# Altium integrated library ST Logic Latch.IntLib: 78 symbols (part 1 of 2)
Pins are listed as number, name and electrical type; pins without a type are passive.

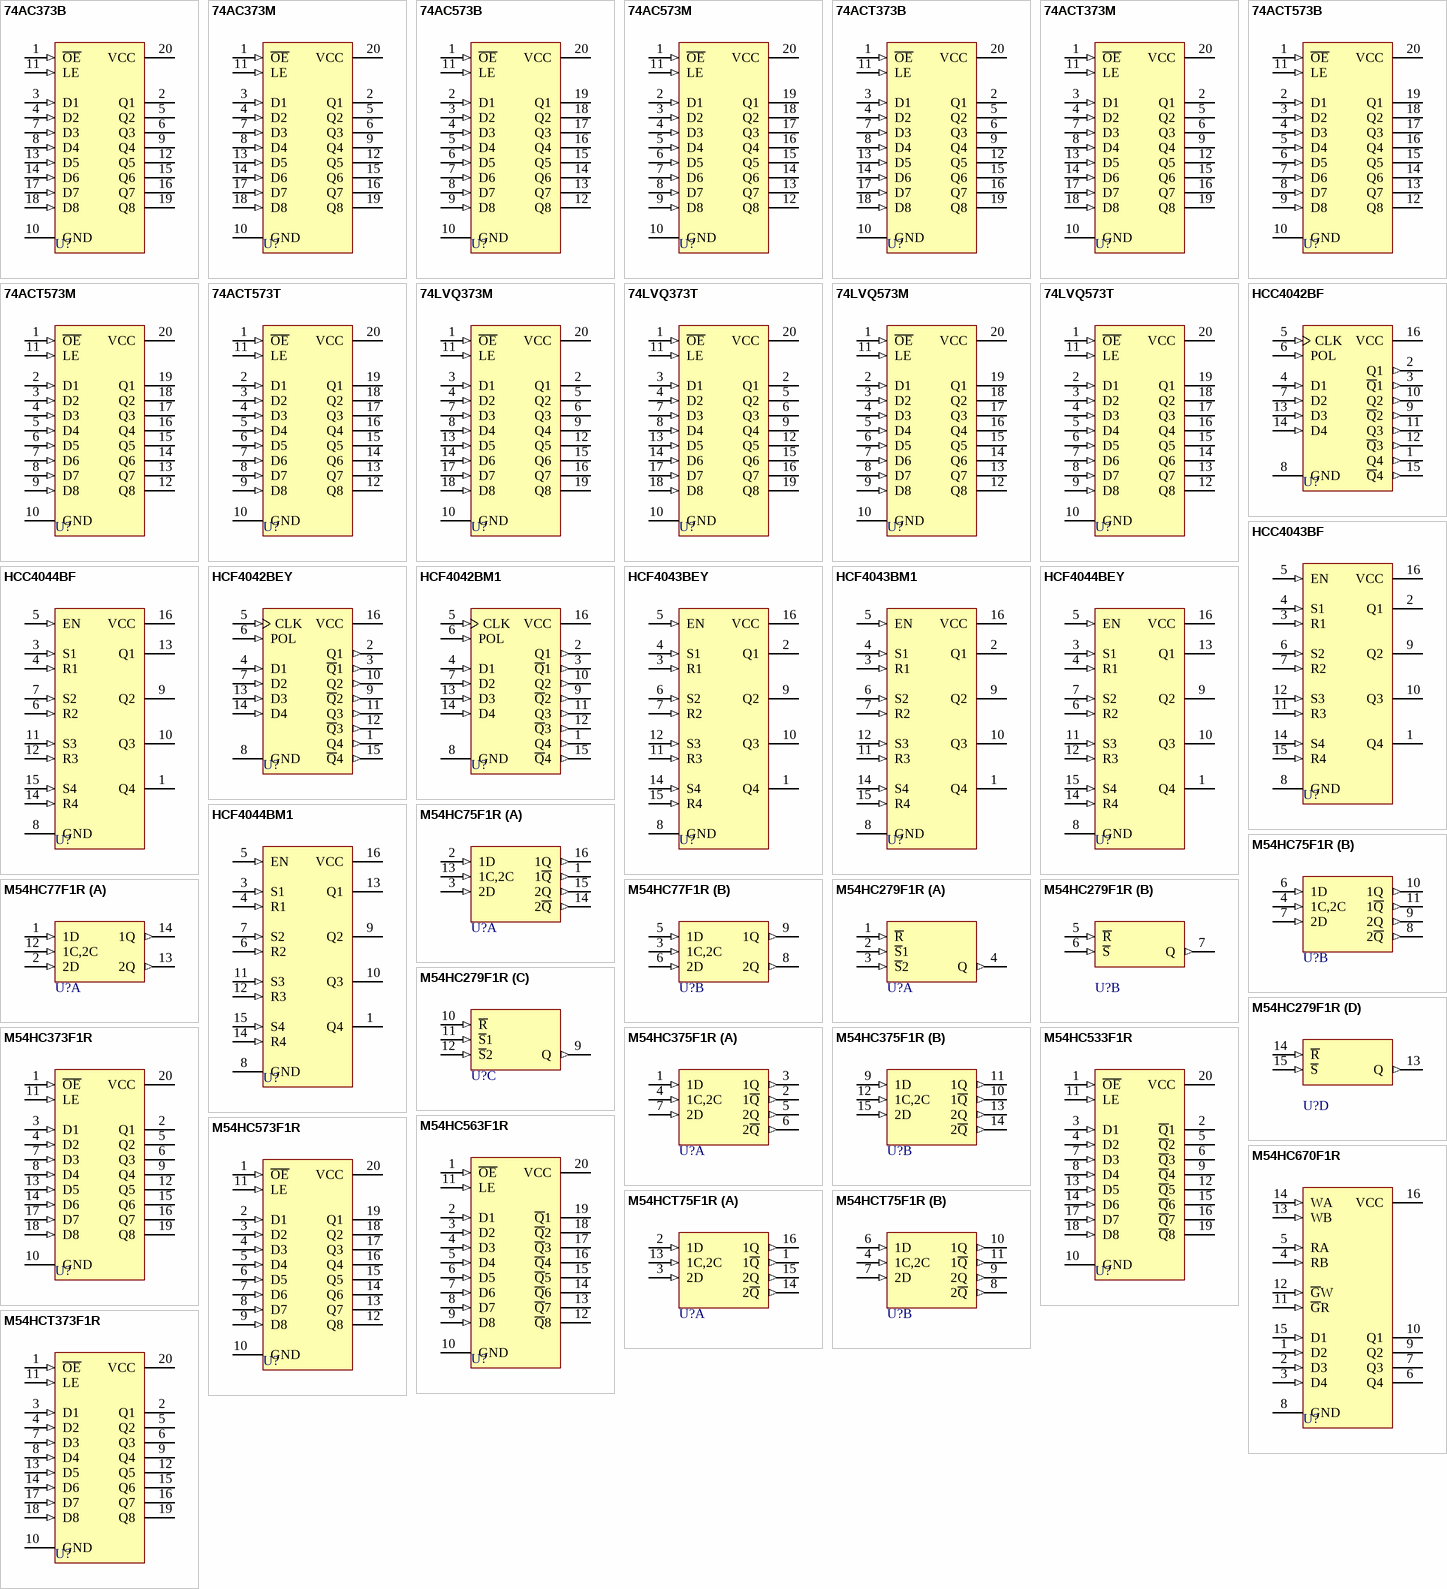
[diagram p0: symbols 74AC373B to M54HCT373F1R]

## 74AC373B
designator U?
Octal D-Type Latch with 3-State Output Non-Inverting; Published: 8-Jun-2000; LatestRevisionDate: 6-Jun-2005; LatestRevisionNote: Stylized 3D Model Added.; DatasheetDocument: Apr-1997; PackageDocument: Jun-1998; PackageReference: DIP20; Publisher: Altium Limited; Code_JEDEC: MS-015-AE; ComponentLink1Description: Manufacturer Link; ComponentLink1URL: http://www.st.com/; ComponentLink2Description: Datasheet; ComponentLink2URL: http://www.st.com/stonline/products/literature/ds/4937/74ac373.pdf
footprint DIP20 (DIP; 20 Leads; Row Spacing 7.62 mm; Pitch 2.54 mm)
3D model DIP20 (DIP; 20 Leads; Row Spacing 7.62 mm; Pitch 2.54 mm)
signal-integrity model 74AC373B
pins: 1 ~{OE} (in), 2 Q1 (hiz), 3 D1 (in), 4 D2 (in), 5 Q2 (hiz), 6 Q3 (hiz), 7 D3 (in), 8 D4 (in), 9 Q4 (hiz), 10 GND (power), 11 LE (in), 12 Q5 (hiz), 13 D5 (in), 14 D6 (in), 15 Q6 (hiz), 16 Q7 (hiz), 17 D7 (in), 18 D8 (in), 19 Q8 (hiz), 20 VCC (power)

## 74AC373M
designator U?
Octal D-Type Latch with 3-State Output Non-Inverting; Published: 8-Jun-2000; LatestRevisionDate: 6-Jun-2005; LatestRevisionNote: Stylized 3D Model Added.; DatasheetDocument: Apr-1997; PackageDocument: Jul-2001; PackageReference: SO20; Publisher: Altium Limited; Code_JEDEC: MS-013-AC; Code_IPC: SO20W; ComponentLink1Description: Manufacturer Link; ComponentLink1URL: http://www.st.com/; ComponentLink2Description: Datasheet; ComponentLink2URL: http://www.st.com/stonline/products/literature/ds/4937/74ac373.pdf
footprint SO20 (Small Outline, Plastic; 20 Leads; Body Width 7.5 mm; Pitch 1.27 mm)
3D model SO20 (Small Outline, Plastic; 20 Leads; Body Width 7.5 mm; Pitch 1.27 mm)
signal-integrity model 74AC373M
pins: 1 ~{OE} (in), 2 Q1 (hiz), 3 D1 (in), 4 D2 (in), 5 Q2 (hiz), 6 Q3 (hiz), 7 D3 (in), 8 D4 (in), 9 Q4 (hiz), 10 GND (power), 11 LE (in), 12 Q5 (hiz), 13 D5 (in), 14 D6 (in), 15 Q6 (hiz), 16 Q7 (hiz), 17 D7 (in), 18 D8 (in), 19 Q8 (hiz), 20 VCC (power)

## 74AC573B
designator U?
Octal D-Type Latch with 3-State Output Non-Inverting; Published: 8-Jun-2000; LatestRevisionDate: 6-Jun-2005; LatestRevisionNote: Stylized 3D Model Added.; DatasheetDocument: Apr-1997; PackageDocument: Jun-1998; PackageReference: DIP20; Publisher: Altium Limited; Code_JEDEC: MS-015-AE; ComponentLink1Description: Manufacturer Link; ComponentLink1URL: http://www.st.com/; ComponentLink2Description: Datasheet; ComponentLink2URL: http://www.st.com/stonline/products/literature/ds/4702/74ac573.pdf
footprint DIP20 (DIP; 20 Leads; Row Spacing 7.62 mm; Pitch 2.54 mm)
3D model DIP20 (DIP; 20 Leads; Row Spacing 7.62 mm; Pitch 2.54 mm)
signal-integrity model 74AC573B
pins: 1 ~{OE} (in), 2 D1 (in), 3 D2 (in), 4 D3 (in), 5 D4 (in), 6 D5 (in), 7 D6 (in), 8 D7 (in), 9 D8 (in), 10 GND (power), 11 LE (in), 12 Q8 (hiz), 13 Q7 (hiz), 14 Q6 (hiz), 15 Q5 (hiz), 16 Q4 (hiz), 17 Q3 (hiz), 18 Q2 (hiz), 19 Q1 (hiz), 20 VCC (power)

## 74AC573M
designator U?
Octal D-Type Latch with 3-State Output Non-Inverting; Published: 8-Jun-2000; LatestRevisionDate: 6-Jun-2005; LatestRevisionNote: Stylized 3D Model Added.; DatasheetDocument: Apr-1997; PackageDocument: Jul-2001; PackageReference: SO20; Publisher: Altium Limited; Code_JEDEC: MS-013-AC; Code_IPC: SO20W; ComponentLink1Description: Manufacturer Link; ComponentLink1URL: http://www.st.com/; ComponentLink2Description: Datasheet; ComponentLink2URL: http://www.st.com/stonline/products/literature/ds/4702/74ac573.pdf
footprint SO20 (Small Outline, Plastic; 20 Leads; Body Width 7.5 mm; Pitch 1.27 mm)
3D model SO20 (Small Outline, Plastic; 20 Leads; Body Width 7.5 mm; Pitch 1.27 mm)
signal-integrity model 74AC573M
pins: 1 ~{OE} (in), 2 D1 (in), 3 D2 (in), 4 D3 (in), 5 D4 (in), 6 D5 (in), 7 D6 (in), 8 D7 (in), 9 D8 (in), 10 GND (power), 11 LE (in), 12 Q8 (hiz), 13 Q7 (hiz), 14 Q6 (hiz), 15 Q5 (hiz), 16 Q4 (hiz), 17 Q3 (hiz), 18 Q2 (hiz), 19 Q1 (hiz), 20 VCC (power)

## 74ACT373B
designator U?
Octal D-Type Latch with 3-State Output Non-Inverting; Published: 8-Jun-2000; LatestRevisionDate: 6-Jun-2005; LatestRevisionNote: Stylized 3D Model Added.; DatasheetDocument: Apr-1997; PackageDocument: Jun-1998; PackageReference: DIP20; Publisher: Altium Limited; Code_JEDEC: MS-015-AE; ComponentLink1Description: Manufacturer Link; ComponentLink1URL: http://www.st.com/; ComponentLink2Description: Datasheet; ComponentLink2URL: http://www.st.com/stonline/products/literature/ds/4819/74act373.pdf
footprint DIP20 (DIP; 20 Leads; Row Spacing 7.62 mm; Pitch 2.54 mm)
3D model DIP20 (DIP; 20 Leads; Row Spacing 7.62 mm; Pitch 2.54 mm)
signal-integrity model 74ACT373B
pins: 1 ~{OE} (in), 2 Q1 (hiz), 3 D1 (in), 4 D2 (in), 5 Q2 (hiz), 6 Q3 (hiz), 7 D3 (in), 8 D4 (in), 9 Q4 (hiz), 10 GND (power), 11 LE (in), 12 Q5 (hiz), 13 D5 (in), 14 D6 (in), 15 Q6 (hiz), 16 Q7 (hiz), 17 D7 (in), 18 D8 (in), 19 Q8 (hiz), 20 VCC (power)

## 74ACT373M
designator U?
Octal D-Type Latch with 3-State Output Non-Inverting; Published: 8-Jun-2000; LatestRevisionDate: 6-Jun-2005; LatestRevisionNote: Stylized 3D Model Added.; DatasheetDocument: Apr-1997; PackageDocument: Jul-2001; PackageReference: SO20; Publisher: Altium Limited; Code_JEDEC: MS-013-AC; Code_IPC: SO20W; ComponentLink1Description: Manufacturer Link; ComponentLink1URL: http://www.st.com/; ComponentLink2Description: Datasheet; ComponentLink2URL: http://www.st.com/stonline/products/literature/ds/4819/74act373.pdf
footprint SO20 (Small Outline, Plastic; 20 Leads; Body Width 7.5 mm; Pitch 1.27 mm)
3D model SO20 (Small Outline, Plastic; 20 Leads; Body Width 7.5 mm; Pitch 1.27 mm)
signal-integrity model 74ACT373M
pins: 1 ~{OE} (in), 2 Q1 (hiz), 3 D1 (in), 4 D2 (in), 5 Q2 (hiz), 6 Q3 (hiz), 7 D3 (in), 8 D4 (in), 9 Q4 (hiz), 10 GND (power), 11 LE (in), 12 Q5 (hiz), 13 D5 (in), 14 D6 (in), 15 Q6 (hiz), 16 Q7 (hiz), 17 D7 (in), 18 D8 (in), 19 Q8 (hiz), 20 VCC (power)

## 74ACT573B
designator U?
Octal D-Type Latch with 3-State Output Non-Inverting; Published: 8-Jun-2000; LatestRevisionDate: 6-Jun-2005; LatestRevisionNote: Stylized 3D Model Added.; DatasheetDocument: May-1999; PackageDocument: Jun-1998; PackageReference: DIP20; Publisher: Altium Limited; Code_JEDEC: MS-015-AE; ComponentLink1Description: Manufacturer Link; ComponentLink1URL: http://www.st.com/; ComponentLink2Description: Datasheet; ComponentLink2URL: http://www.st.com/stonline/products/literature/ds/4820/74act573.pdf
footprint DIP20 (DIP; 20 Leads; Row Spacing 7.62 mm; Pitch 2.54 mm)
3D model DIP20 (DIP; 20 Leads; Row Spacing 7.62 mm; Pitch 2.54 mm)
signal-integrity model 74ACT573B
pins: 1 ~{OE} (in), 2 D1 (in), 3 D2 (in), 4 D3 (in), 5 D4 (in), 6 D5 (in), 7 D6 (in), 8 D7 (in), 9 D8 (in), 10 GND (power), 11 LE (in), 12 Q8 (hiz), 13 Q7 (hiz), 14 Q6 (hiz), 15 Q5 (hiz), 16 Q4 (hiz), 17 Q3 (hiz), 18 Q2 (hiz), 19 Q1 (hiz), 20 VCC (power)

## 74ACT573M
designator U?
Octal D-Type Latch with 3-State Output Non-Inverting; Published: 8-Jun-2000; LatestRevisionDate: 6-Jun-2005; LatestRevisionNote: Stylized 3D Model Added.; DatasheetDocument: May-1999; PackageDocument: Jul-2001; PackageReference: SO20; Publisher: Altium Limited; Code_JEDEC: MS-013-AC; Code_IPC: SO20W; ComponentLink1Description: Manufacturer Link; ComponentLink1URL: http://www.st.com/; ComponentLink2Description: Datasheet; ComponentLink2URL: http://www.st.com/stonline/products/literature/ds/4820/74act573.pdf
footprint SO20 (Small Outline, Plastic; 20 Leads; Body Width 7.5 mm; Pitch 1.27 mm)
3D model SO20 (Small Outline, Plastic; 20 Leads; Body Width 7.5 mm; Pitch 1.27 mm)
signal-integrity model 74ACT573M
pins: 1 ~{OE} (in), 2 D1 (in), 3 D2 (in), 4 D3 (in), 5 D4 (in), 6 D5 (in), 7 D6 (in), 8 D7 (in), 9 D8 (in), 10 GND (power), 11 LE (in), 12 Q8 (hiz), 13 Q7 (hiz), 14 Q6 (hiz), 15 Q5 (hiz), 16 Q4 (hiz), 17 Q3 (hiz), 18 Q2 (hiz), 19 Q1 (hiz), 20 VCC (power)

## 74ACT573T
designator U?
Octal D-Type Latch with 3-State Output Non-Inverting; Published: 8-Jun-2000; LatestRevisionDate: 6-Jun-2005; LatestRevisionNote: Stylized 3D Model Added.; DatasheetDocument: May-1999; PackageReference: TSSOP20; Publisher: Altium Limited; ComponentLink1Description: Manufacturer Link; ComponentLink1URL: http://www.st.com/; ComponentLink2Description: Datasheet; ComponentLink2URL: http://www.st.com/stonline/products/literature/ds/4820/74act573.pdf
footprint TSSOP20 (Shrink Small Outline; 20 Leads; Body Width 4.4 mm; Pitch 0.65 mm)
3D model TSSOP20 (Shrink Small Outline; 20 Leads; Body Width 4.4 mm; Pitch 0.65 mm)
signal-integrity model 74ACT573T
pins: 1 ~{OE} (in), 2 D1 (in), 3 D2 (in), 4 D3 (in), 5 D4 (in), 6 D5 (in), 7 D6 (in), 8 D7 (in), 9 D8 (in), 10 GND (power), 11 LE (in), 12 Q8 (hiz), 13 Q7 (hiz), 14 Q6 (hiz), 15 Q5 (hiz), 16 Q4 (hiz), 17 Q3 (hiz), 18 Q2 (hiz), 19 Q1 (hiz), 20 VCC (power)

## 74LVQ373M
designator U?
Octal D-Type Latch with 3-State Output Non-Inverting; Published: 8-Jun-2000; LatestRevisionDate: 6-Jun-2005; LatestRevisionNote: Stylized 3D Model Added.; DatasheetDocument: Feb-1999; PackageDocument: Jul-2001; PackageReference: SO20; Publisher: Altium Limited; Code_JEDEC: MS-013-AC; Code_IPC: SO20W; ComponentLink1Description: Manufacturer Link; ComponentLink1URL: http://www.st.com/; ComponentLink2Description: Datasheet; ComponentLink2URL: http://www.st.com/stonline/products/literature/ds/4911/74lvq373.pdf
footprint SO20 (Small Outline, Plastic; 20 Leads; Body Width 7.5 mm; Pitch 1.27 mm)
3D model SO20 (Small Outline, Plastic; 20 Leads; Body Width 7.5 mm; Pitch 1.27 mm)
pins: 1 ~{OE} (in), 2 Q1 (hiz), 3 D1 (in), 4 D2 (in), 5 Q2 (hiz), 6 Q3 (hiz), 7 D3 (in), 8 D4 (in), 9 Q4 (hiz), 10 GND (power), 11 LE (in), 12 Q5 (hiz), 13 D5 (in), 14 D6 (in), 15 Q6 (hiz), 16 Q7 (hiz), 17 D7 (in), 18 D8 (in), 19 Q8 (hiz), 20 VCC (power)

## 74LVQ373T
designator U?
Octal D-Type Latch with 3-State Output Non-Inverting; Published: 8-Jun-2000; LatestRevisionDate: 6-Jun-2005; LatestRevisionNote: Stylized 3D Model Added.; DatasheetDocument: Feb-1999; PackageReference: TSSOP20; Publisher: Altium Limited; ComponentLink1Description: Manufacturer Link; ComponentLink1URL: http://www.st.com/; ComponentLink2Description: Datasheet; ComponentLink2URL: http://www.st.com/stonline/products/literature/ds/4911/74lvq373.pdf
footprint TSSOP20 (Shrink Small Outline; 20 Leads; Body Width 4.4 mm; Pitch 0.65 mm)
3D model TSSOP20 (Shrink Small Outline; 20 Leads; Body Width 4.4 mm; Pitch 0.65 mm)
pins: 1 ~{OE} (in), 2 Q1 (hiz), 3 D1 (in), 4 D2 (in), 5 Q2 (hiz), 6 Q3 (hiz), 7 D3 (in), 8 D4 (in), 9 Q4 (hiz), 10 GND (power), 11 LE (in), 12 Q5 (hiz), 13 D5 (in), 14 D6 (in), 15 Q6 (hiz), 16 Q7 (hiz), 17 D7 (in), 18 D8 (in), 19 Q8 (hiz), 20 VCC (power)

## 74LVQ573M
designator U?
Octal D-Type Latch with 3-State Output Non-Inverting; Published: 8-Jun-2000; LatestRevisionDate: 6-Jun-2005; LatestRevisionNote: Stylized 3D Model Added.; DatasheetDocument: Feb-1999; PackageDocument: Jul-2001; PackageReference: SO20; Publisher: Altium Limited; Code_JEDEC: MS-013-AC; Code_IPC: SO20W; ComponentLink1Description: Manufacturer Link; ComponentLink1URL: http://www.st.com/; ComponentLink2Description: Datasheet; ComponentLink2URL: http://www.st.com/stonline/products/literature/ds/4909/74lvq573.pdf
footprint SO20 (Small Outline, Plastic; 20 Leads; Body Width 7.5 mm; Pitch 1.27 mm)
3D model SO20 (Small Outline, Plastic; 20 Leads; Body Width 7.5 mm; Pitch 1.27 mm)
pins: 1 ~{OE} (in), 2 D1 (in), 3 D2 (in), 4 D3 (in), 5 D4 (in), 6 D5 (in), 7 D6 (in), 8 D7 (in), 9 D8 (in), 10 GND (power), 11 LE (in), 12 Q8 (hiz), 13 Q7 (hiz), 14 Q6 (hiz), 15 Q5 (hiz), 16 Q4 (hiz), 17 Q3 (hiz), 18 Q2 (hiz), 19 Q1 (hiz), 20 VCC (power)

## 74LVQ573T
designator U?
Octal D-Type Latch with 3-State Output Non-Inverting; Published: 8-Jun-2000; LatestRevisionDate: 6-Jun-2005; LatestRevisionNote: Stylized 3D Model Added.; DatasheetDocument: Feb-1999; PackageReference: TSSOP20; Publisher: Altium Limited; ComponentLink1Description: Manufacturer Link; ComponentLink1URL: http://www.st.com/; ComponentLink2Description: Datasheet; ComponentLink2URL: http://www.st.com/stonline/products/literature/ds/4909/74lvq573.pdf
footprint TSSOP20 (Shrink Small Outline; 20 Leads; Body Width 4.4 mm; Pitch 0.65 mm)
3D model TSSOP20 (Shrink Small Outline; 20 Leads; Body Width 4.4 mm; Pitch 0.65 mm)
pins: 1 ~{OE} (in), 2 D1 (in), 3 D2 (in), 4 D3 (in), 5 D4 (in), 6 D5 (in), 7 D6 (in), 8 D7 (in), 9 D8 (in), 10 GND (power), 11 LE (in), 12 Q8 (hiz), 13 Q7 (hiz), 14 Q6 (hiz), 15 Q5 (hiz), 16 Q4 (hiz), 17 Q3 (hiz), 18 Q2 (hiz), 19 Q1 (hiz), 20 VCC (power)

## HCC4042BF
designator U?
Quad Clocked D-Latch; Published: 8-Jun-2000; LatestRevisionDate: 6-Jun-2005; LatestRevisionNote: Stylized 3D Model Added.; DatasheetDocument: Jun-1989; PackageDocument: Apr-1996; PackageReference: DIP16; Publisher: Altium Limited; ComponentLink1Description: Manufacturer Link; ComponentLink1URL: http://www.st.com/
footprint DIP16 (DIP; 16 Leads; Row Spacing 7.62 mm; Pitch 2.54 mm)
3D model DIP16 (DIP; 16 Leads; Row Spacing 7.62 mm; Pitch 2.54 mm)
simulation model HCC4042 (SIMCODE)
pins: 1 Q4 (out), 2 Q1 (out), 3 ~{Q}1 (out), 4 D1 (in), 5 CLK (in), 6 POL (in), 7 D2 (in), 8 GND (power), 9 ~{Q}2 (out), 10 Q2 (out), 11 Q3 (out), 12 ~{Q}3 (out), 13 D3 (in), 14 D4 (in), 15 ~{Q}4 (out), 16 VCC (power)

## HCC4043BF
designator U?
Quad 3-State R-S Latch; Note: Pin 13 is not connected and not drawn.; Published: 8-Jun-2000; LatestRevisionDate: 6-Jun-2005; LatestRevisionNote: Stylized 3D Model Added.; DatasheetDocument: Jun-1989; PackageDocument: Apr-1996; PackageReference: DIP16; Publisher: Altium Limited; ComponentLink1Description: Manufacturer Link; ComponentLink1URL: http://www.st.com/
footprint DIP16 (DIP; 16 Leads; Row Spacing 7.62 mm; Pitch 2.54 mm)
3D model DIP16 (DIP; 16 Leads; Row Spacing 7.62 mm; Pitch 2.54 mm)
simulation model HCC4043 (SIMCODE)
pins: 1 Q4 (hiz), 2 Q1 (hiz), 3 R1 (in), 4 S1 (in), 5 EN (in), 6 S2 (in), 7 R2 (in), 8 GND (power), 9 Q2 (hiz), 10 Q3 (hiz), 11 R3 (in), 12 S3 (in), 14 S4 (in), 15 R4 (in), 16 VCC (power)

## HCC4044BF
designator U?
Quad 3-State R-S Latch; Note: Pin 2 is not connected and not drawn.; Published: 8-Jun-2000; LatestRevisionDate: 6-Jun-2005; LatestRevisionNote: Stylized 3D Model Added.; DatasheetDocument: Jun-1989; PackageDocument: Apr-1996; PackageReference: DIP16; Publisher: Altium Limited; ComponentLink1Description: Manufacturer Link; ComponentLink1URL: http://www.st.com/
footprint DIP16 (DIP; 16 Leads; Row Spacing 7.62 mm; Pitch 2.54 mm)
3D model DIP16 (DIP; 16 Leads; Row Spacing 7.62 mm; Pitch 2.54 mm)
simulation model HCC4044 (SIMCODE)
pins: 1 Q4 (hiz), 3 S1 (in), 4 R1 (in), 5 EN (in), 6 R2 (in), 7 S2 (in), 8 GND (power), 9 Q2 (hiz), 10 Q3 (hiz), 11 S3 (in), 12 R3 (in), 13 Q1 (hiz), 14 R4 (in), 15 S4 (in), 16 VCC (power)

## HCF4042BEY
designator U?
Quad Clocked D-Latch; Published: 8-Jun-2000; LatestRevisionDate: 6-Jun-2005; LatestRevisionNote: Stylized 3D Model Added.; DatasheetDocument: Jun-1989; PackageDocument: Apr-1996; PackageReference: DIP16; Publisher: Altium Limited; ComponentLink1Description: Manufacturer Link; ComponentLink1URL: http://www.st.com/; ComponentLink2Description: Datasheet; ComponentLink2URL: http://www.st.com/stonline/products/literature/ds/2047/hcf4042.pdf
footprint DIP16 (DIP; 16 Leads; Row Spacing 7.62 mm; Pitch 2.54 mm)
3D model DIP16 (DIP; 16 Leads; Row Spacing 7.62 mm; Pitch 2.54 mm)
simulation model HCF4042 (SIMCODE)
pins: 1 Q4 (out), 2 Q1 (out), 3 ~{Q}1 (out), 4 D1 (in), 5 CLK (in), 6 POL (in), 7 D2 (in), 8 GND (power), 9 ~{Q}2 (out), 10 Q2 (out), 11 Q3 (out), 12 ~{Q}3 (out), 13 D3 (in), 14 D4 (in), 15 ~{Q}4 (out), 16 VCC (power)

## HCF4042BM1
designator U?
Quad Clocked D-Latch; Published: 8-Jun-2000; LatestRevisionDate: 6-Jun-2005; LatestRevisionNote: Stylized 3D Model Added.; DatasheetDocument: Jun-1989; PackageDocument: May-1998; PackageReference: SO16; Publisher: Altium Limited; ComponentLink1Description: Manufacturer Link; ComponentLink1URL: http://www.st.com/; ComponentLink2Description: Datasheet; ComponentLink2URL: http://www.st.com/stonline/products/literature/ds/2047/hcf4042.pdf
footprint SO16 (Small Outline; 16 Leads; Body Width 3.9 mm; Pitch 1.27 mm)
3D model SO16 (Small Outline; 16 Leads; Body Width 3.9 mm; Pitch 1.27 mm)
simulation model HCF4042 (SIMCODE)
pins: 1 Q4 (out), 2 Q1 (out), 3 ~{Q}1 (out), 4 D1 (in), 5 CLK (in), 6 POL (in), 7 D2 (in), 8 GND (power), 9 ~{Q}2 (out), 10 Q2 (out), 11 Q3 (out), 12 ~{Q}3 (out), 13 D3 (in), 14 D4 (in), 15 ~{Q}4 (out), 16 VCC (power)

## HCF4043BEY
designator U?
Quad 3-State R-S Latch; Note: Pin 13 is not connected and not drawn.; Published: 8-Jun-2000; LatestRevisionDate: 6-Jun-2005; LatestRevisionNote: Stylized 3D Model Added.; DatasheetDocument: Jun-1989; PackageDocument: Apr-1996; PackageReference: DIP16; Publisher: Altium Limited; ComponentLink1Description: Manufacturer Link; ComponentLink1URL: http://www.st.com/
footprint DIP16 (DIP; 16 Leads; Row Spacing 7.62 mm; Pitch 2.54 mm)
3D model DIP16 (DIP; 16 Leads; Row Spacing 7.62 mm; Pitch 2.54 mm)
simulation model HCF4043 (SIMCODE)
pins: 1 Q4 (hiz), 2 Q1 (hiz), 3 R1 (in), 4 S1 (in), 5 EN (in), 6 S2 (in), 7 R2 (in), 8 GND (power), 9 Q2 (hiz), 10 Q3 (hiz), 11 R3 (in), 12 S3 (in), 14 S4 (in), 15 R4 (in), 16 VCC (power)

## HCF4043BM1
designator U?
Quad 3-State R-S Latch; Note: Pin 13 is not connected and not drawn.; Published: 8-Jun-2000; LatestRevisionDate: 6-Jun-2005; LatestRevisionNote: Stylized 3D Model Added.; DatasheetDocument: Jun-1989; PackageDocument: May-1998; PackageReference: SO16; Publisher: Altium Limited; ComponentLink1Description: Manufacturer Link; ComponentLink1URL: http://www.st.com/
footprint SO16 (Small Outline; 16 Leads; Body Width 3.9 mm; Pitch 1.27 mm)
3D model SO16 (Small Outline; 16 Leads; Body Width 3.9 mm; Pitch 1.27 mm)
simulation model HCF4043 (SIMCODE)
pins: 1 Q4 (hiz), 2 Q1 (hiz), 3 R1 (in), 4 S1 (in), 5 EN (in), 6 S2 (in), 7 R2 (in), 8 GND (power), 9 Q2 (hiz), 10 Q3 (hiz), 11 R3 (in), 12 S3 (in), 14 S4 (in), 15 R4 (in), 16 VCC (power)

## HCF4044BEY
designator U?
Quad 3-State R-S Latch; Note: Pin 2 is not connected and not drawn.; Published: 8-Jun-2000; LatestRevisionDate: 6-Jun-2005; LatestRevisionNote: Stylized 3D Model Added.; DatasheetDocument: Jun-1989; PackageDocument: Apr-1996; PackageReference: DIP16; Publisher: Altium Limited; ComponentLink1Description: Manufacturer Link; ComponentLink1URL: http://www.st.com/; ComponentLink2Description: Datasheet; ComponentLink2URL: http://www.st.com/stonline/products/literature/ds/8218/hcf4044.pdf
footprint DIP16 (DIP; 16 Leads; Row Spacing 7.62 mm; Pitch 2.54 mm)
3D model DIP16 (DIP; 16 Leads; Row Spacing 7.62 mm; Pitch 2.54 mm)
simulation model HCF4044 (SIMCODE)
pins: 1 Q4 (hiz), 3 S1 (in), 4 R1 (in), 5 EN (in), 6 R2 (in), 7 S2 (in), 8 GND (power), 9 Q2 (hiz), 10 Q3 (hiz), 11 S3 (in), 12 R3 (in), 13 Q1 (hiz), 14 R4 (in), 15 S4 (in), 16 VCC (power)

## HCF4044BM1
designator U?
Quad 3-State R-S Latch; Note: Pin 2 is not connected and not drawn.; Published: 8-Jun-2000; LatestRevisionDate: 6-Jun-2005; LatestRevisionNote: Stylized 3D Model Added.; DatasheetDocument: Jun-1989; PackageDocument: May-1998; PackageReference: SO16; Publisher: Altium Limited; ComponentLink1Description: Manufacturer Link; ComponentLink1URL: http://www.st.com/; ComponentLink2Description: Datasheet; ComponentLink2URL: http://www.st.com/stonline/products/literature/ds/8218/hcf4044.pdf
footprint SO16 (Small Outline; 16 Leads; Body Width 3.9 mm; Pitch 1.27 mm)
3D model SO16 (Small Outline; 16 Leads; Body Width 3.9 mm; Pitch 1.27 mm)
simulation model HCF4044 (SIMCODE)
pins: 1 Q4 (hiz), 3 S1 (in), 4 R1 (in), 5 EN (in), 6 R2 (in), 7 S2 (in), 8 GND (power), 9 Q2 (hiz), 10 Q3 (hiz), 11 S3 (in), 12 R3 (in), 13 Q1 (hiz), 14 R4 (in), 15 S4 (in), 16 VCC (power)

## M54HC75F1R
designator U?
4-Bit D-Type Latch; Published: 8-Jun-2000; LatestRevisionDate: 6-Jun-2005; LatestRevisionNote: Stylized 3D Model Added.; DatasheetDocument: Dec-1992; PackageDocument: Apr-1996; PackageReference: DIP16; Publisher: Altium Limited; ComponentLink1Description: Manufacturer Link; ComponentLink1URL: http://www.st.com/
footprint DIP16 (DIP; 16 Leads; Row Spacing 7.62 mm; Pitch 2.54 mm)
3D model DIP16 (DIP; 16 Leads; Row Spacing 7.62 mm; Pitch 2.54 mm)
signal-integrity model M54HC75F1R
pins on every part: 5 VCC (power) hidden to VCC, 12 GND (power) hidden to GND
part A pins: 1 1~{Q} (out), 2 1D (in), 3 2D (in), 13 1C,2C (in), 14 2~{Q} (out), 15 2Q (out), 16 1Q (out)
part B pins: 4 1C,2C (in), 6 1D (in), 7 2D (in), 8 2~{Q} (out), 9 2Q (out), 10 1Q (out), 11 1~{Q} (out)

## M54HC77F1R
designator U?
4-Bit D-Type Latch; Note: Pins 7 and 10 are not connected and not drawn.; Published: 8-Jun-2000; LatestRevisionDate: 6-Jun-2005; LatestRevisionNote: Stylized 3D Model Added.; DatasheetDocument: Oct-1992; PackageReference: CDIP14; Publisher: Altium Limited; ComponentLink1Description: Manufacturer Link; ComponentLink1URL: http://www.st.com/
footprint CDIP14 (DIP; 14 Leads; Row Spacing 7.62 mm; Pitch 2.54 mm)
3D model CDIP14 (DIP; 14 Leads; Row Spacing 7.62 mm; Pitch 2.54 mm)
signal-integrity model M54HC77F1R
pins on every part: 4 VCC (power) hidden to VCC, 11 GND (power) hidden to GND
part A pins: 1 1D (in), 2 2D (in), 12 1C,2C (in), 13 2Q (out), 14 1Q (out)
part B pins: 3 1C,2C (in), 5 1D (in), 6 2D (in), 8 2Q (out), 9 1Q (out)

## M54HC279F1R
designator U?
Quad S-R Latch; Published: 8-Jun-2000; LatestRevisionDate: 6-Jun-2005; LatestRevisionNote: Stylized 3D Model Added.; DatasheetDocument: Mar-1993; PackageDocument: Apr-1996; PackageReference: DIP16; Publisher: Altium Limited; ComponentLink1Description: Manufacturer Link; ComponentLink1URL: http://www.st.com/
footprint DIP16 (DIP; 16 Leads; Row Spacing 7.62 mm; Pitch 2.54 mm)
3D model DIP16 (DIP; 16 Leads; Row Spacing 7.62 mm; Pitch 2.54 mm)
signal-integrity model M54HC279F1R
pins on every part: 8 GND (power) hidden to GND, 16 VCC (power) hidden to VCC
part A pins: 1 ~{R} (in), 2 ~{S}1 (in), 3 ~{S}2 (in), 4 Q (out)
part B pins: 5 ~{R} (in), 6 ~{S} (in), 7 Q (out)
part C pins: 9 Q (out), 10 ~{R} (in), 11 ~{S}1 (in), 12 ~{S}2 (in)
part D pins: 13 Q (out), 14 ~{R} (in), 15 ~{S} (in)

## M54HC373F1R
designator U?
Octal D-Type Latch with 3-State Output Non-Inverting; Published: 8-Jun-2000; LatestRevisionDate: 6-Jun-2005; LatestRevisionNote: Stylized 3D Model Added.; DatasheetDocument: Oct-1993; PackageDocument: Sep-1994; PackageReference: CDIP20; Publisher: Altium Limited; ComponentLink1Description: Manufacturer Link; ComponentLink1URL: http://www.st.com/
footprint CDIP20 (DIP; 20 Leads; Row Spacing 7.62 mm; Pitch 2.54 mm)
3D model CDIP20 (DIP; 20 Leads; Row Spacing 7.62 mm; Pitch 2.54 mm)
signal-integrity model M54HC373F1R
pins: 1 ~{OE} (in), 2 Q1 (hiz), 3 D1 (in), 4 D2 (in), 5 Q2 (hiz), 6 Q3 (hiz), 7 D3 (in), 8 D4 (in), 9 Q4 (hiz), 10 GND (power), 11 LE (in), 12 Q5 (hiz), 13 D5 (in), 14 D6 (in), 15 Q6 (hiz), 16 Q7 (hiz), 17 D7 (in), 18 D8 (in), 19 Q8 (hiz), 20 VCC (power)

## M54HC375F1R
designator U?
Quad D-Type Latch; Published: 8-Jun-2000; LatestRevisionDate: 6-Jun-2005; LatestRevisionNote: Stylized 3D Model Added.; DatasheetDocument: Feb-1993; PackageDocument: Apr-1996; PackageReference: DIP16; Publisher: Altium Limited; ComponentLink1Description: Manufacturer Link; ComponentLink1URL: http://www.st.com/
footprint DIP16 (DIP; 16 Leads; Row Spacing 7.62 mm; Pitch 2.54 mm)
3D model DIP16 (DIP; 16 Leads; Row Spacing 7.62 mm; Pitch 2.54 mm)
signal-integrity model M54HC375F1R
pins on every part: 8 GND (power) hidden to GND, 16 VCC (power) hidden to VCC
part A pins: 1 1D (in), 2 1~{Q} (out), 3 1Q (out), 4 1C,2C (in), 5 2Q (out), 6 2~{Q} (out), 7 2D (in)
part B pins: 9 1D (in), 10 1~{Q} (out), 11 1Q (out), 12 1C,2C (in), 13 2Q (out), 14 2~{Q} (out), 15 2D (in)

## M54HC533F1R
designator U?
Octal D-Type Latch with 3-State Output Inverting; Published: 8-Jun-2000; LatestRevisionDate: 6-Jun-2005; LatestRevisionNote: Stylized 3D Model Added.; DatasheetDocument: Oct-1993; PackageDocument: Sep-1994; PackageReference: CDIP20; Publisher: Altium Limited; ComponentLink1Description: Manufacturer Link; ComponentLink1URL: http://www.st.com/
footprint CDIP20 (DIP; 20 Leads; Row Spacing 7.62 mm; Pitch 2.54 mm)
3D model CDIP20 (DIP; 20 Leads; Row Spacing 7.62 mm; Pitch 2.54 mm)
signal-integrity model M54HC533F1R
pins: 1 ~{OE} (in), 2 ~{Q}1 (hiz), 3 D1 (in), 4 D2 (in), 5 ~{Q}2 (hiz), 6 ~{Q}3 (hiz), 7 D3 (in), 8 D4 (in), 9 ~{Q}4 (hiz), 10 GND (power), 11 LE (in), 12 ~{Q}5 (hiz), 13 D5 (in), 14 D6 (in), 15 ~{Q}6 (hiz), 16 ~{Q}7 (hiz), 17 D7 (in), 18 D8 (in), 19 ~{Q}8 (hiz), 20 VCC (power)

## M54HC563F1R
designator U?
Octal D-Type Latch with 3-State Output Inverting; Published: 8-Jun-2000; LatestRevisionDate: 6-Jun-2005; LatestRevisionNote: Stylized 3D Model Added.; DatasheetDocument: Oct-1993; PackageDocument: Sep-1994; PackageReference: CDIP20; Publisher: Altium Limited; ComponentLink1Description: Manufacturer Link; ComponentLink1URL: http://www.st.com/
footprint CDIP20 (DIP; 20 Leads; Row Spacing 7.62 mm; Pitch 2.54 mm)
3D model CDIP20 (DIP; 20 Leads; Row Spacing 7.62 mm; Pitch 2.54 mm)
signal-integrity model M54HC563F1R
pins: 1 ~{OE} (in), 2 D1 (in), 3 D2 (in), 4 D3 (in), 5 D4 (in), 6 D5 (in), 7 D6 (in), 8 D7 (in), 9 D8 (in), 10 GND (power), 11 LE (in), 12 ~{Q}8 (hiz), 13 ~{Q}7 (hiz), 14 ~{Q}6 (hiz), 15 ~{Q}5 (hiz), 16 ~{Q}4 (hiz), 17 ~{Q}3 (hiz), 18 ~{Q}2 (hiz), 19 ~{Q}1 (hiz), 20 VCC (power)

## M54HC573F1R
designator U?
Octal D-Type Latch with 3-State Output Non-Inverting; Published: 8-Jun-2000; LatestRevisionDate: 6-Jun-2005; LatestRevisionNote: Stylized 3D Model Added.; DatasheetDocument: Oct-1993; PackageDocument: Sep-1994; PackageReference: CDIP20; Publisher: Altium Limited; ComponentLink1Description: Manufacturer Link; ComponentLink1URL: http://www.st.com/
footprint CDIP20 (DIP; 20 Leads; Row Spacing 7.62 mm; Pitch 2.54 mm)
3D model CDIP20 (DIP; 20 Leads; Row Spacing 7.62 mm; Pitch 2.54 mm)
signal-integrity model M54HC573F1R
pins: 1 ~{OE} (in), 2 D1 (in), 3 D2 (in), 4 D3 (in), 5 D4 (in), 6 D5 (in), 7 D6 (in), 8 D7 (in), 9 D8 (in), 10 GND (power), 11 LE (in), 12 Q8 (hiz), 13 Q7 (hiz), 14 Q6 (hiz), 15 Q5 (hiz), 16 Q4 (hiz), 17 Q3 (hiz), 18 Q2 (hiz), 19 Q1 (hiz), 20 VCC (power)

## M54HC670F1R
designator U?
4 Word x 4 Bit Register File (3-State); Published: 8-Jun-2000; LatestRevisionDate: 6-Jun-2005; LatestRevisionNote: Stylized 3D Model Added.; DatasheetDocument: Oct-1992; PackageDocument: Apr-1996; PackageReference: DIP16; Publisher: Altium Limited; ComponentLink1Description: Manufacturer Link; ComponentLink1URL: http://www.st.com/
footprint DIP16 (DIP; 16 Leads; Row Spacing 7.62 mm; Pitch 2.54 mm)
3D model DIP16 (DIP; 16 Leads; Row Spacing 7.62 mm; Pitch 2.54 mm)
signal-integrity model M54HC670F1R
pins: 1 D2 (in), 2 D3 (in), 3 D4 (in), 4 RB (in), 5 RA (in), 6 Q4 (hiz), 7 Q3 (hiz), 8 GND (power), 9 Q2 (hiz), 10 Q1 (hiz), 11 ~{G}R (in), 12 ~{G}W (in), 13 WB (in), 14 WA (in), 15 D1 (in), 16 VCC (power)

## M54HCT75F1R
designator U?
4-Bit D-Type Latch; Published: 8-Jun-2000; LatestRevisionDate: 6-Jun-2005; LatestRevisionNote: Stylized 3D Model Added.; DatasheetDocument: Jan-1993; PackageDocument: Apr-1996; PackageReference: DIP16; Publisher: Altium Limited; ComponentLink1Description: Manufacturer Link; ComponentLink1URL: http://www.st.com/
footprint DIP16 (DIP; 16 Leads; Row Spacing 7.62 mm; Pitch 2.54 mm)
3D model DIP16 (DIP; 16 Leads; Row Spacing 7.62 mm; Pitch 2.54 mm)
signal-integrity model M54HCT75F1R
pins on every part: 5 VCC (power) hidden to VCC, 12 GND (power) hidden to GND
part A pins: 1 1~{Q} (out), 2 1D (in), 3 2D (in), 13 1C,2C (in), 14 2~{Q} (out), 15 2Q (out), 16 1Q (out)
part B pins: 4 1C,2C (in), 6 1D (in), 7 2D (in), 8 2~{Q} (out), 9 2Q (out), 10 1Q (out), 11 1~{Q} (out)

## M54HCT373F1R
designator U?
Octal D-Type Latch with 3-State Output Non-Inverting; Published: 8-Jun-2000; LatestRevisionDate: 6-Jun-2005; LatestRevisionNote: Stylized 3D Model Added.; DatasheetDocument: Oct-1993; PackageDocument: Sep-1994; PackageReference: CDIP20; Publisher: Altium Limited; ComponentLink1Description: Manufacturer Link; ComponentLink1URL: http://www.st.com/
footprint CDIP20 (DIP; 20 Leads; Row Spacing 7.62 mm; Pitch 2.54 mm)
3D model CDIP20 (DIP; 20 Leads; Row Spacing 7.62 mm; Pitch 2.54 mm)
signal-integrity model M54HCT373F1R
pins: 1 ~{OE} (in), 2 Q1 (hiz), 3 D1 (in), 4 D2 (in), 5 Q2 (hiz), 6 Q3 (hiz), 7 D3 (in), 8 D4 (in), 9 Q4 (hiz), 10 GND (power), 11 LE (in), 12 Q5 (hiz), 13 D5 (in), 14 D6 (in), 15 Q6 (hiz), 16 Q7 (hiz), 17 D7 (in), 18 D8 (in), 19 Q8 (hiz), 20 VCC (power)

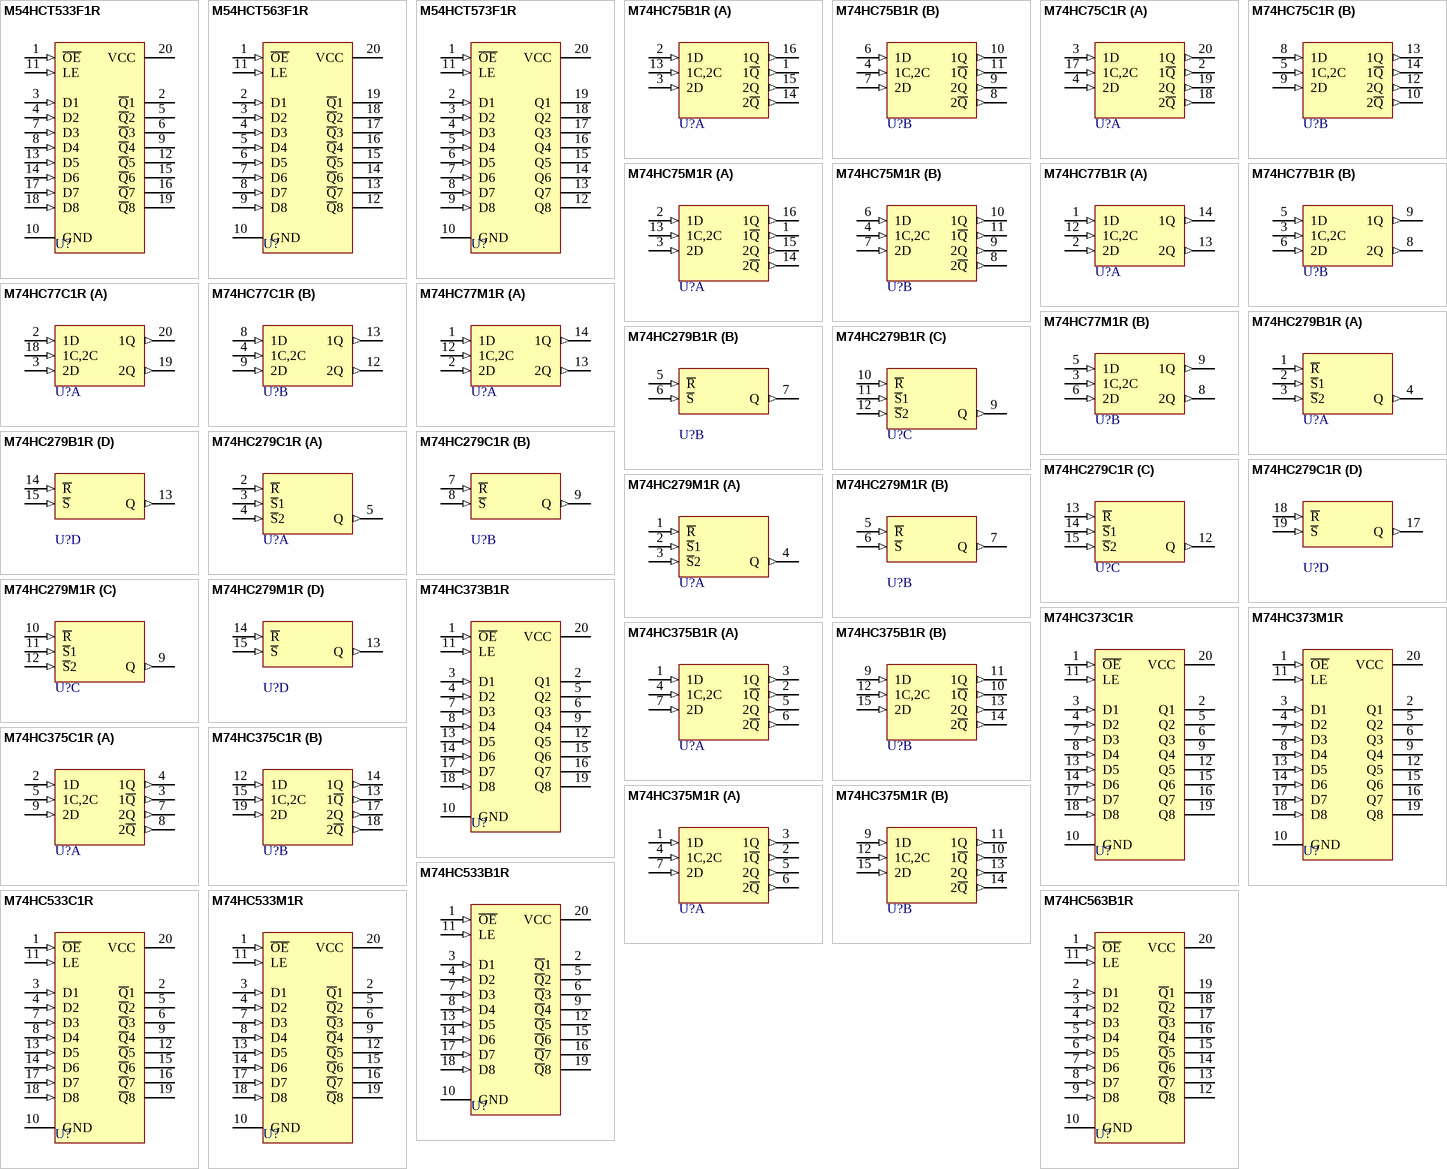
[diagram p1: symbols M54HCT533F1R to M74HC563B1R]

## M54HCT533F1R
designator U?
Octal D-Type Latch with 3-State Output Inverting; Published: 8-Jun-2000; LatestRevisionDate: 6-Jun-2005; LatestRevisionNote: Stylized 3D Model Added.; DatasheetDocument: Oct-1993; PackageDocument: Sep-1994; PackageReference: CDIP20; Publisher: Altium Limited; ComponentLink1Description: Manufacturer Link; ComponentLink1URL: http://www.st.com/
footprint CDIP20 (DIP; 20 Leads; Row Spacing 7.62 mm; Pitch 2.54 mm)
3D model CDIP20 (DIP; 20 Leads; Row Spacing 7.62 mm; Pitch 2.54 mm)
signal-integrity model M54HCT533F1R
pins: 1 ~{OE} (in), 2 ~{Q}1 (hiz), 3 D1 (in), 4 D2 (in), 5 ~{Q}2 (hiz), 6 ~{Q}3 (hiz), 7 D3 (in), 8 D4 (in), 9 ~{Q}4 (hiz), 10 GND (power), 11 LE (in), 12 ~{Q}5 (hiz), 13 D5 (in), 14 D6 (in), 15 ~{Q}6 (hiz), 16 ~{Q}7 (hiz), 17 D7 (in), 18 D8 (in), 19 ~{Q}8 (hiz), 20 VCC (power)

## M54HCT563F1R
designator U?
Octal D-Type Latch with 3-State Output Inverting; Published: 8-Jun-2000; LatestRevisionDate: 6-Jun-2005; LatestRevisionNote: Stylized 3D Model Added.; DatasheetDocument: Oct-1993; PackageDocument: Sep-1994; PackageReference: CDIP20; Publisher: Altium Limited; ComponentLink1Description: Manufacturer Link; ComponentLink1URL: http://www.st.com/
footprint CDIP20 (DIP; 20 Leads; Row Spacing 7.62 mm; Pitch 2.54 mm)
3D model CDIP20 (DIP; 20 Leads; Row Spacing 7.62 mm; Pitch 2.54 mm)
signal-integrity model M54HCT563F1R
pins: 1 ~{OE} (in), 2 D1 (in), 3 D2 (in), 4 D3 (in), 5 D4 (in), 6 D5 (in), 7 D6 (in), 8 D7 (in), 9 D8 (in), 10 GND (power), 11 LE (in), 12 ~{Q}8 (hiz), 13 ~{Q}7 (hiz), 14 ~{Q}6 (hiz), 15 ~{Q}5 (hiz), 16 ~{Q}4 (hiz), 17 ~{Q}3 (hiz), 18 ~{Q}2 (hiz), 19 ~{Q}1 (hiz), 20 VCC (power)

## M54HCT573F1R
designator U?
Octal D-Type Latch with 3-State Output Non-Inverting; Published: 8-Jun-2000; LatestRevisionDate: 6-Jun-2005; LatestRevisionNote: Stylized 3D Model Added.; DatasheetDocument: Oct-1993; PackageDocument: Sep-1994; PackageReference: CDIP20; Publisher: Altium Limited; ComponentLink1Description: Manufacturer Link; ComponentLink1URL: http://www.st.com/
footprint CDIP20 (DIP; 20 Leads; Row Spacing 7.62 mm; Pitch 2.54 mm)
3D model CDIP20 (DIP; 20 Leads; Row Spacing 7.62 mm; Pitch 2.54 mm)
signal-integrity model M54HCT573F1R
pins: 1 ~{OE} (in), 2 D1 (in), 3 D2 (in), 4 D3 (in), 5 D4 (in), 6 D5 (in), 7 D6 (in), 8 D7 (in), 9 D8 (in), 10 GND (power), 11 LE (in), 12 Q8 (hiz), 13 Q7 (hiz), 14 Q6 (hiz), 15 Q5 (hiz), 16 Q4 (hiz), 17 Q3 (hiz), 18 Q2 (hiz), 19 Q1 (hiz), 20 VCC (power)

## M74HC75B1R
designator U?
4-Bit D-Type Latch; Published: 8-Jun-2000; LatestRevisionDate: 6-Jun-2005; LatestRevisionNote: Stylized 3D Model Added.; DatasheetDocument: Dec-1992; PackageDocument: Apr-1996; PackageReference: DIP16; Publisher: Altium Limited; ComponentLink1Description: Manufacturer Link; ComponentLink1URL: http://www.st.com/; ComponentLink2Description: Datasheet; ComponentLink2URL: http://www.st.com/stonline/products/literature/ds/2001/m74hc75.pdf
footprint DIP16 (DIP; 16 Leads; Row Spacing 7.62 mm; Pitch 2.54 mm)
3D model DIP16 (DIP; 16 Leads; Row Spacing 7.62 mm; Pitch 2.54 mm)
signal-integrity model M74HC75B1R
pins on every part: 5 VCC (power) hidden to VCC, 12 GND (power) hidden to GND
part A pins: 1 1~{Q} (out), 2 1D (in), 3 2D (in), 13 1C,2C (in), 14 2~{Q} (out), 15 2Q (out), 16 1Q (out)
part B pins: 4 1C,2C (in), 6 1D (in), 7 2D (in), 8 2~{Q} (out), 9 2Q (out), 10 1Q (out), 11 1~{Q} (out)

## M74HC75C1R
designator U?
4-Bit D-Type Latch; Note: Pins 1, 6, 11 and 16 are not connected and not drawn.; Published: 8-Jun-2000; LatestRevisionDate: 6-Jun-2005; LatestRevisionNote: Stylized 3D Model Added.; DatasheetDocument: Dec-1992; PackageDocument: Mar-1992; PackageReference: PLCC20; Publisher: Altium Limited; ComponentLink1Description: Manufacturer Link; ComponentLink1URL: http://www.st.com/
footprint PLCC20 (Leaded Chip Carrier; 20 Leads; Body 9 x 9 mm)
3D model M74HC75-PLCC20 (Leaded Chip Carrier; 20 Leads; Body 9 x 9 mm)
signal-integrity model M74HC75C1R
pins on every part: 7 VCC (power) hidden to VCC, 15 GND (power) hidden to GND
part A pins: 2 1~{Q} (out), 3 1D (in), 4 2D (in), 17 1C,2C (in), 18 2~{Q} (out), 19 2Q (out), 20 1Q (out)
part B pins: 5 1C,2C (in), 8 1D (in), 9 2D (in), 10 2~{Q} (out), 12 2Q (out), 13 1Q (out), 14 1~{Q} (out)

## M74HC75M1R
designator U?
4-Bit D-Type Latch; Published: 8-Jun-2000; LatestRevisionDate: 6-Jun-2005; LatestRevisionNote: Stylized 3D Model Added.; DatasheetDocument: Dec-1992; PackageDocument: May-1998; PackageReference: SO16; Publisher: Altium Limited; ComponentLink1Description: Manufacturer Link; ComponentLink1URL: http://www.st.com/; ComponentLink2Description: Datasheet; ComponentLink2URL: http://www.st.com/stonline/products/literature/ds/2001/m74hc75.pdf
footprint SO16 (Small Outline; 16 Leads; Body Width 3.9 mm; Pitch 1.27 mm)
3D model SO16 (Small Outline; 16 Leads; Body Width 3.9 mm; Pitch 1.27 mm)
signal-integrity model M74HC75M1R
pins on every part: 5 VCC (power) hidden to VCC, 12 GND (power) hidden to GND
part A pins: 1 1~{Q} (out), 2 1D (in), 3 2D (in), 13 1C,2C (in), 14 2~{Q} (out), 15 2Q (out), 16 1Q (out)
part B pins: 4 1C,2C (in), 6 1D (in), 7 2D (in), 8 2~{Q} (out), 9 2Q (out), 10 1Q (out), 11 1~{Q} (out)

## M74HC77B1R
designator U?
4-Bit D-Type Latch; Note: Pins 7 and 10 are not connected and not drawn.; Published: 8-Jun-2000; LatestRevisionDate: 6-Jun-2005; LatestRevisionNote: Stylized 3D Model Added.; DatasheetDocument: Oct-1992; PackageDocument: Jan-1997; PackageReference: DIP14; Publisher: Altium Limited; ComponentLink1Description: Manufacturer Link; ComponentLink1URL: http://www.st.com/
footprint DIP14 (DIP; 14 Leads; Row Spacing 7.62 mm; Pitch 2.54 mm)
3D model CDIP14 (DIP; 14 Leads; Row Spacing 7.62 mm; Pitch 2.54 mm)
signal-integrity model M74HC77B1R
pins on every part: 4 VCC (power) hidden to VCC, 11 GND (power) hidden to GND
part A pins: 1 1D (in), 2 2D (in), 12 1C,2C (in), 13 2Q (out), 14 1Q (out)
part B pins: 3 1C,2C (in), 5 1D (in), 6 2D (in), 8 2Q (out), 9 1Q (out)

## M74HC77C1R
designator U?
4-Bit D-Type Latch; Note: Pins 1, 5, 7, 10, 11, 14, 15 and 17 are not connected and not drawn.; Published: 8-Jun-2000; LatestRevisionDate: 6-Jun-2005; LatestRevisionNote: Stylized 3D Model Added.; DatasheetDocument: Oct-1992; PackageDocument: Mar-1992; PackageReference: PLCC20; Publisher: Altium Limited; ComponentLink1Description: Manufacturer Link; ComponentLink1URL: http://www.st.com/
footprint PLCC20 (Leaded Chip Carrier; 20 Leads; Body 9 x 9 mm)
3D model M74HC77-PLCC20 (Leaded Chip Carrier; 20 Leads; Body 9 x 9 mm)
signal-integrity model M74HC77C1R
pins on every part: 6 VCC (power) hidden to VCC, 16 GND (power) hidden to GND
part A pins: 2 1D (in), 3 2D (in), 18 1C,2C (in), 19 2Q (out), 20 1Q (out)
part B pins: 4 1C,2C (in), 8 1D (in), 9 2D (in), 12 2Q (out), 13 1Q (out)

## M74HC77M1R
designator U?
4-Bit D-Type Latch; Note: Pins 7 and 10 are not connected and not drawn.; Published: 8-Jun-2000; LatestRevisionDate: 6-Jun-2005; LatestRevisionNote: Stylized 3D Model Added.; DatasheetDocument: Oct-1992; PackageDocument: Sep-1998; PackageReference: SO14; Publisher: Altium Limited; ComponentLink1Description: Manufacturer Link; ComponentLink1URL: http://www.st.com/
footprint SO14 (Small Outline; 14 Leads; Body Width 3.9 mm; Pitch 1.27 mm)
3D model SO14 (Small Outline; 14 Leads; Body Width 3.9 mm; Pitch 1.27 mm)
signal-integrity model M74HC77M1R
pins on every part: 4 VCC (power) hidden to VCC, 11 GND (power) hidden to GND
part A pins: 1 1D (in), 2 2D (in), 12 1C,2C (in), 13 2Q (out), 14 1Q (out)
part B pins: 3 1C,2C (in), 5 1D (in), 6 2D (in), 8 2Q (out), 9 1Q (out)

## M74HC279B1R
designator U?
Quad S-R Latch; Published: 8-Jun-2000; LatestRevisionDate: 6-Jun-2005; LatestRevisionNote: Stylized 3D Model Added.; DatasheetDocument: Mar-1993; PackageDocument: Apr-1996; PackageReference: DIP16; Publisher: Altium Limited; ComponentLink1Description: Manufacturer Link; ComponentLink1URL: http://www.st.com/; ComponentLink2Description: Datasheet; ComponentLink2URL: http://www.st.com/stonline/products/literature/ds/1937/m74hc279.pdf
footprint DIP16 (DIP; 16 Leads; Row Spacing 7.62 mm; Pitch 2.54 mm)
3D model DIP16 (DIP; 16 Leads; Row Spacing 7.62 mm; Pitch 2.54 mm)
signal-integrity model M74HC279B1R
pins on every part: 8 GND (power) hidden to GND, 16 VCC (power) hidden to VCC
part A pins: 1 ~{R} (in), 2 ~{S}1 (in), 3 ~{S}2 (in), 4 Q (out)
part B pins: 5 ~{R} (in), 6 ~{S} (in), 7 Q (out)
part C pins: 9 Q (out), 10 ~{R} (in), 11 ~{S}1 (in), 12 ~{S}2 (in)
part D pins: 13 Q (out), 14 ~{R} (in), 15 ~{S} (in)

## M74HC279C1R
designator U?
Quad S-R Latch; Note: Pins 1, 6, 11 and 16 are not connected and not drawn.; Published: 8-Jun-2000; LatestRevisionDate: 6-Jun-2005; LatestRevisionNote: Stylized 3D Model Added.; DatasheetDocument: Mar-1993; PackageDocument: Mar-1992; PackageReference: PLCC20; Publisher: Altium Limited; ComponentLink1Description: Manufacturer Link; ComponentLink1URL: http://www.st.com/
footprint PLCC20 (Leaded Chip Carrier; 20 Leads; Body 9 x 9 mm)
3D model M74HC279-PLCC20 (Leaded Chip Carrier; 20 Leads; Body 9 x 9 mm)
signal-integrity model M74HC279C1R
pins on every part: 10 GND (power) hidden to GND, 20 VCC (power) hidden to VCC
part A pins: 2 ~{R} (in), 3 ~{S}1 (in), 4 ~{S}2 (in), 5 Q (out)
part B pins: 7 ~{R} (in), 8 ~{S} (in), 9 Q (out)
part C pins: 12 Q (out), 13 ~{R} (in), 14 ~{S}1 (in), 15 ~{S}2 (in)
part D pins: 17 Q (out), 18 ~{R} (in), 19 ~{S} (in)

## M74HC279M1R
designator U?
Quad S-R Latch; Published: 8-Jun-2000; LatestRevisionDate: 6-Jun-2005; LatestRevisionNote: Stylized 3D Model Added.; DatasheetDocument: Mar-1993; PackageDocument: May-1998; PackageReference: SO16; Publisher: Altium Limited; ComponentLink1Description: Manufacturer Link; ComponentLink1URL: http://www.st.com/; ComponentLink2Description: Datasheet; ComponentLink2URL: http://www.st.com/stonline/products/literature/ds/1937/m74hc279.pdf
footprint SO16 (Small Outline; 16 Leads; Body Width 3.9 mm; Pitch 1.27 mm)
3D model SO16 (Small Outline; 16 Leads; Body Width 3.9 mm; Pitch 1.27 mm)
signal-integrity model M74HC279M1R
pins on every part: 8 GND (power) hidden to GND, 16 VCC (power) hidden to VCC
part A pins: 1 ~{R} (in), 2 ~{S}1 (in), 3 ~{S}2 (in), 4 Q (out)
part B pins: 5 ~{R} (in), 6 ~{S} (in), 7 Q (out)
part C pins: 9 Q (out), 10 ~{R} (in), 11 ~{S}1 (in), 12 ~{S}2 (in)
part D pins: 13 Q (out), 14 ~{R} (in), 15 ~{S} (in)

## M74HC373B1R
designator U?
Octal D-Type Latch with 3-State Output Non-Inverting; Published: 8-Jun-2000; LatestRevisionDate: 6-Jun-2005; LatestRevisionNote: Stylized 3D Model Added.; DatasheetDocument: Oct-1993; PackageDocument: Jun-1998; PackageReference: DIP20; Publisher: Altium Limited; Code_JEDEC: MS-015-AE; ComponentLink1Description: Manufacturer Link; ComponentLink1URL: http://www.st.com/; ComponentLink2Description: Datasheet; ComponentLink2URL: http://www.st.com/stonline/products/literature/ds/1950/m74hc373.pdf
footprint DIP20 (DIP; 20 Leads; Row Spacing 7.62 mm; Pitch 2.54 mm)
3D model DIP20 (DIP; 20 Leads; Row Spacing 7.62 mm; Pitch 2.54 mm)
signal-integrity model M74HC373B1R
pins: 1 ~{OE} (in), 2 Q1 (hiz), 3 D1 (in), 4 D2 (in), 5 Q2 (hiz), 6 Q3 (hiz), 7 D3 (in), 8 D4 (in), 9 Q4 (hiz), 10 GND (power), 11 LE (in), 12 Q5 (hiz), 13 D5 (in), 14 D6 (in), 15 Q6 (hiz), 16 Q7 (hiz), 17 D7 (in), 18 D8 (in), 19 Q8 (hiz), 20 VCC (power)

## M74HC373C1R
designator U?
Octal D-Type Latch with 3-State Output Non-Inverting; Published: 8-Jun-2000; LatestRevisionDate: 6-Jun-2005; LatestRevisionNote: Stylized 3D Model Added.; DatasheetDocument: Oct-1993; PackageDocument: Mar-1992; PackageReference: PLCC20; Publisher: Altium Limited; ComponentLink1Description: Manufacturer Link; ComponentLink1URL: http://www.st.com/
footprint PLCC20 (Leaded Chip Carrier; 20 Leads; Body 9 x 9 mm)
3D model M74HC373-PLCC20 (Leaded Chip Carrier; 20 Leads; Body 9 x 9 mm)
signal-integrity model M74HC373C1R
pins: 1 ~{OE} (in), 2 Q1 (hiz), 3 D1 (in), 4 D2 (in), 5 Q2 (hiz), 6 Q3 (hiz), 7 D3 (in), 8 D4 (in), 9 Q4 (hiz), 10 GND (power), 11 LE (in), 12 Q5 (hiz), 13 D5 (in), 14 D6 (in), 15 Q6 (hiz), 16 Q7 (hiz), 17 D7 (in), 18 D8 (in), 19 Q8 (hiz), 20 VCC (power)

## M74HC373M1R
designator U?
Octal D-Type Latch with 3-State Output Non-Inverting; Published: 8-Jun-2000; LatestRevisionDate: 6-Jun-2005; LatestRevisionNote: Stylized 3D Model Added.; DatasheetDocument: Oct-1993; PackageDocument: Jul-2001; PackageReference: SO20; Publisher: Altium Limited; Code_JEDEC: MS-013-AC; Code_IPC: SO20W; ComponentLink1Description: Manufacturer Link; ComponentLink1URL: http://www.st.com/; ComponentLink2Description: Datasheet; ComponentLink2URL: http://www.st.com/stonline/products/literature/ds/1950/m74hc373.pdf
footprint SO20 (Small Outline, Plastic; 20 Leads; Body Width 7.5 mm; Pitch 1.27 mm)
3D model SO20 (Small Outline, Plastic; 20 Leads; Body Width 7.5 mm; Pitch 1.27 mm)
signal-integrity model M74HC373M1R
pins: 1 ~{OE} (in), 2 Q1 (hiz), 3 D1 (in), 4 D2 (in), 5 Q2 (hiz), 6 Q3 (hiz), 7 D3 (in), 8 D4 (in), 9 Q4 (hiz), 10 GND (power), 11 LE (in), 12 Q5 (hiz), 13 D5 (in), 14 D6 (in), 15 Q6 (hiz), 16 Q7 (hiz), 17 D7 (in), 18 D8 (in), 19 Q8 (hiz), 20 VCC (power)

## M74HC375B1R
designator U?
Quad D-Type Latch; Published: 8-Jun-2000; LatestRevisionDate: 6-Jun-2005; LatestRevisionNote: Stylized 3D Model Added.; DatasheetDocument: Feb-1993; PackageDocument: Apr-1996; PackageReference: DIP16; Publisher: Altium Limited; ComponentLink1Description: Manufacturer Link; ComponentLink1URL: http://www.st.com/
footprint DIP16 (DIP; 16 Leads; Row Spacing 7.62 mm; Pitch 2.54 mm)
3D model DIP16 (DIP; 16 Leads; Row Spacing 7.62 mm; Pitch 2.54 mm)
signal-integrity model M74HC375B1R
pins on every part: 8 GND (power) hidden to GND, 16 VCC (power) hidden to VCC
part A pins: 1 1D (in), 2 1~{Q} (out), 3 1Q (out), 4 1C,2C (in), 5 2Q (out), 6 2~{Q} (out), 7 2D (in)
part B pins: 9 1D (in), 10 1~{Q} (out), 11 1Q (out), 12 1C,2C (in), 13 2Q (out), 14 2~{Q} (out), 15 2D (in)

## M74HC375C1R
designator U?
Quad D-Type Latch; Note: Pins 1, 6, 11 and 16 are not connected and not drawn.; Published: 8-Jun-2000; LatestRevisionDate: 6-Jun-2005; LatestRevisionNote: Stylized 3D Model Added.; DatasheetDocument: Feb-1993; PackageDocument: Mar-1992; PackageReference: PLCC20; Publisher: Altium Limited; ComponentLink1Description: Manufacturer Link; ComponentLink1URL: http://www.st.com/
footprint PLCC20 (Leaded Chip Carrier; 20 Leads; Body 9 x 9 mm)
3D model M74HC375-PLCC20 (Leaded Chip Carrier; 20 Leads; Body 9 x 9 mm)
signal-integrity model M74HC375C1R
pins on every part: 10 GND (power) hidden to GND, 20 VCC (power) hidden to VCC
part A pins: 2 1D (in), 3 1~{Q} (out), 4 1Q (out), 5 1C,2C (in), 7 2Q (out), 8 2~{Q} (out), 9 2D (in)
part B pins: 12 1D (in), 13 1~{Q} (out), 14 1Q (out), 15 1C,2C (in), 17 2Q (out), 18 2~{Q} (out), 19 2D (in)

## M74HC375M1R
designator U?
Quad D-Type Latch; Published: 8-Jun-2000; LatestRevisionDate: 6-Jun-2005; LatestRevisionNote: Stylized 3D Model Added.; DatasheetDocument: Feb-1993; PackageDocument: May-1998; PackageReference: SO16; Publisher: Altium Limited; ComponentLink1Description: Manufacturer Link; ComponentLink1URL: http://www.st.com/
footprint SO16 (Small Outline; 16 Leads; Body Width 3.9 mm; Pitch 1.27 mm)
3D model SO16 (Small Outline; 16 Leads; Body Width 3.9 mm; Pitch 1.27 mm)
signal-integrity model M74HC375M1R
pins on every part: 8 GND (power) hidden to GND, 16 VCC (power) hidden to VCC
part A pins: 1 1D (in), 2 1~{Q} (out), 3 1Q (out), 4 1C,2C (in), 5 2Q (out), 6 2~{Q} (out), 7 2D (in)
part B pins: 9 1D (in), 10 1~{Q} (out), 11 1Q (out), 12 1C,2C (in), 13 2Q (out), 14 2~{Q} (out), 15 2D (in)

## M74HC533B1R
designator U?
Octal D-Type Latch with 3-State Output Inverting; Published: 8-Jun-2000; LatestRevisionDate: 6-Jun-2005; LatestRevisionNote: Stylized 3D Model Added.; DatasheetDocument: Oct-1993; PackageDocument: Jun-1998; PackageReference: DIP20; Publisher: Altium Limited; Code_JEDEC: MS-015-AE; ComponentLink1Description: Manufacturer Link; ComponentLink1URL: http://www.st.com/; ComponentLink2Description: Datasheet; ComponentLink2URL: http://www.st.com/stonline/products/literature/ds/8086/m74hc533.pdf
footprint DIP20 (DIP; 20 Leads; Row Spacing 7.62 mm; Pitch 2.54 mm)
3D model DIP20 (DIP; 20 Leads; Row Spacing 7.62 mm; Pitch 2.54 mm)
signal-integrity model M74HC533B1R
pins: 1 ~{OE} (in), 2 ~{Q}1 (hiz), 3 D1 (in), 4 D2 (in), 5 ~{Q}2 (hiz), 6 ~{Q}3 (hiz), 7 D3 (in), 8 D4 (in), 9 ~{Q}4 (hiz), 10 GND (power), 11 LE (in), 12 ~{Q}5 (hiz), 13 D5 (in), 14 D6 (in), 15 ~{Q}6 (hiz), 16 ~{Q}7 (hiz), 17 D7 (in), 18 D8 (in), 19 ~{Q}8 (hiz), 20 VCC (power)

## M74HC533C1R
designator U?
Octal D-Type Latch with 3-State Output Inverting; Published: 8-Jun-2000; LatestRevisionDate: 6-Jun-2005; LatestRevisionNote: Stylized 3D Model Added.; DatasheetDocument: Oct-1993; PackageDocument: Mar-1992; PackageReference: PLCC20; Publisher: Altium Limited; ComponentLink1Description: Manufacturer Link; ComponentLink1URL: http://www.st.com/
footprint PLCC20 (Leaded Chip Carrier; 20 Leads; Body 9 x 9 mm)
3D model M74HC533-PLCC20 (Leaded Chip Carrier; 20 Leads; Body 9 x 9 mm)
signal-integrity model M74HC533C1R
pins: 1 ~{OE} (in), 2 ~{Q}1 (hiz), 3 D1 (in), 4 D2 (in), 5 ~{Q}2 (hiz), 6 ~{Q}3 (hiz), 7 D3 (in), 8 D4 (in), 9 ~{Q}4 (hiz), 10 GND (power), 11 LE (in), 12 ~{Q}5 (hiz), 13 D5 (in), 14 D6 (in), 15 ~{Q}6 (hiz), 16 ~{Q}7 (hiz), 17 D7 (in), 18 D8 (in), 19 ~{Q}8 (hiz), 20 VCC (power)

## M74HC533M1R
designator U?
Octal D-Type Latch with 3-State Output Inverting; Published: 8-Jun-2000; LatestRevisionDate: 6-Jun-2005; LatestRevisionNote: Stylized 3D Model Added.; DatasheetDocument: Oct-1993; PackageDocument: Jul-2001; PackageReference: SO20; Publisher: Altium Limited; Code_JEDEC: MS-013-AC; Code_IPC: SO20W; ComponentLink1Description: Manufacturer Link; ComponentLink1URL: http://www.st.com/; ComponentLink2Description: Datasheet; ComponentLink2URL: http://www.st.com/stonline/products/literature/ds/8086/m74hc533.pdf
footprint SO20 (Small Outline, Plastic; 20 Leads; Body Width 7.5 mm; Pitch 1.27 mm)
3D model SO20 (Small Outline, Plastic; 20 Leads; Body Width 7.5 mm; Pitch 1.27 mm)
signal-integrity model M74HC533M1R
pins: 1 ~{OE} (in), 2 ~{Q}1 (hiz), 3 D1 (in), 4 D2 (in), 5 ~{Q}2 (hiz), 6 ~{Q}3 (hiz), 7 D3 (in), 8 D4 (in), 9 ~{Q}4 (hiz), 10 GND (power), 11 LE (in), 12 ~{Q}5 (hiz), 13 D5 (in), 14 D6 (in), 15 ~{Q}6 (hiz), 16 ~{Q}7 (hiz), 17 D7 (in), 18 D8 (in), 19 ~{Q}8 (hiz), 20 VCC (power)

## M74HC563B1R
designator U?
Octal D-Type Latch with 3-State Output Inverting; Published: 8-Jun-2000; LatestRevisionDate: 6-Jun-2005; LatestRevisionNote: Stylized 3D Model Added.; DatasheetDocument: Oct-1993; PackageDocument: Jun-1998; PackageReference: DIP20; Publisher: Altium Limited; Code_JEDEC: MS-015-AE; ComponentLink1Description: Manufacturer Link; ComponentLink1URL: http://www.st.com/; ComponentLink2Description: Datasheet; ComponentLink2URL: http://www.st.com/stonline/products/literature/ds/1984/m74hc563.pdf
footprint DIP20 (DIP; 20 Leads; Row Spacing 7.62 mm; Pitch 2.54 mm)
3D model DIP20 (DIP; 20 Leads; Row Spacing 7.62 mm; Pitch 2.54 mm)
signal-integrity model M74HC563B1R
pins: 1 ~{OE} (in), 2 D1 (in), 3 D2 (in), 4 D3 (in), 5 D4 (in), 6 D5 (in), 7 D6 (in), 8 D7 (in), 9 D8 (in), 10 GND (power), 11 LE (in), 12 ~{Q}8 (hiz), 13 ~{Q}7 (hiz), 14 ~{Q}6 (hiz), 15 ~{Q}5 (hiz), 16 ~{Q}4 (hiz), 17 ~{Q}3 (hiz), 18 ~{Q}2 (hiz), 19 ~{Q}1 (hiz), 20 VCC (power)

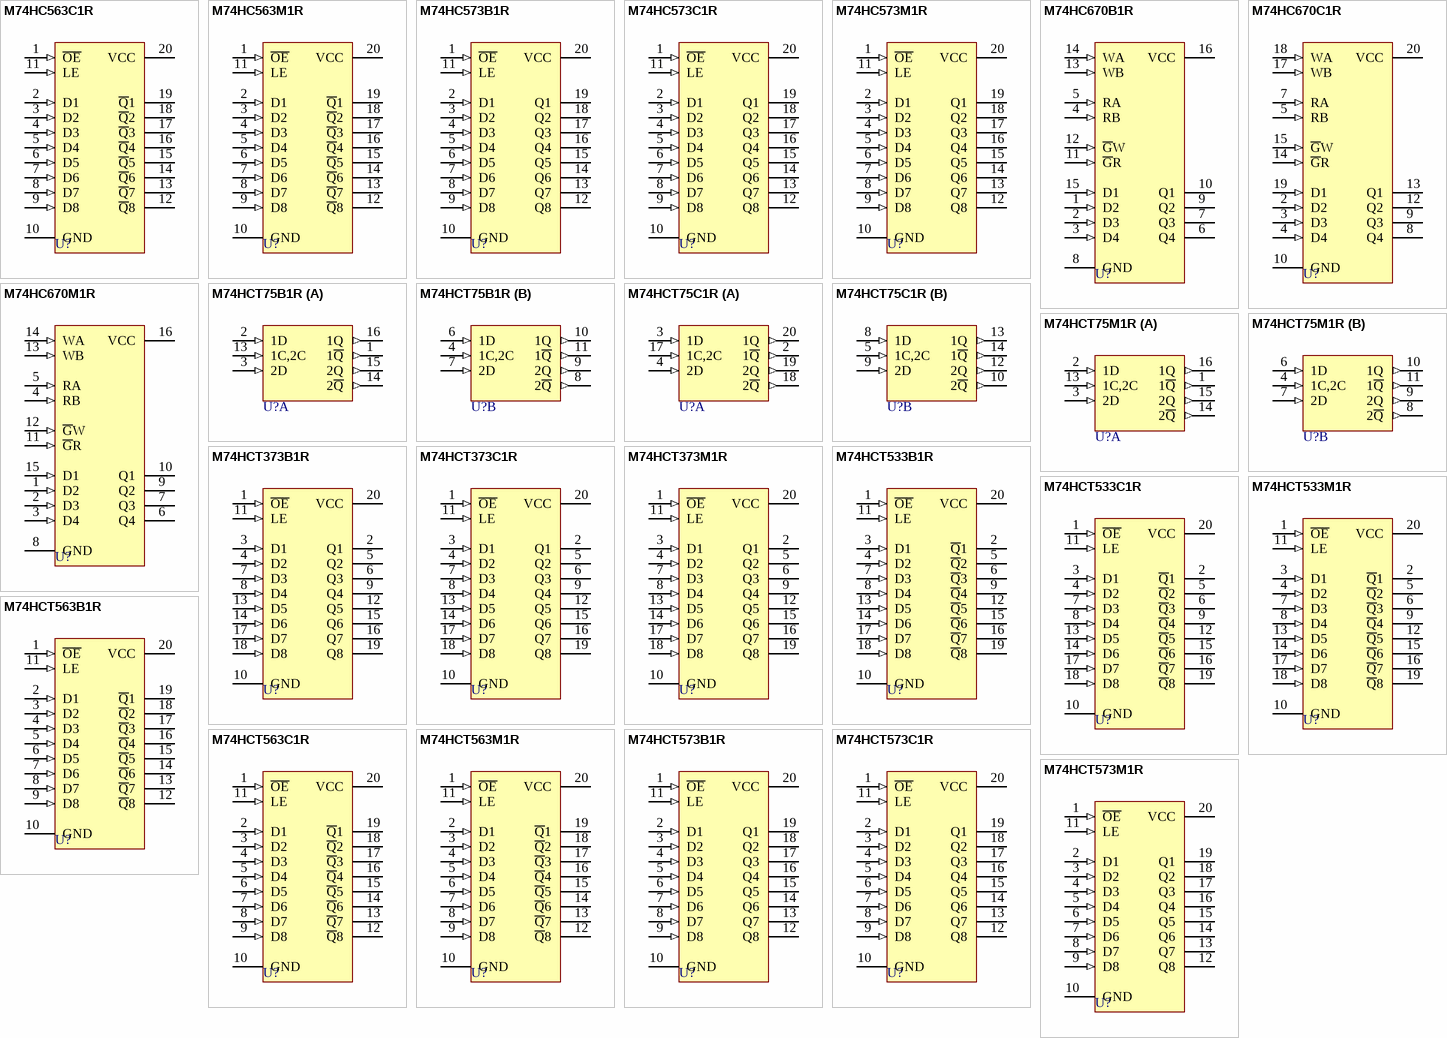
[diagram p2: symbols M74HC563C1R to M74HCT573M1R]

## M74HC563C1R
designator U?
Octal D-Type Latch with 3-State Output Inverting; Published: 8-Jun-2000; LatestRevisionDate: 6-Jun-2005; LatestRevisionNote: Stylized 3D Model Added.; DatasheetDocument: Oct-1993; PackageDocument: Mar-1992; PackageReference: PLCC20; Publisher: Altium Limited; ComponentLink1Description: Manufacturer Link; ComponentLink1URL: http://www.st.com/
footprint PLCC20 (Leaded Chip Carrier; 20 Leads; Body 9 x 9 mm)
3D model M74HC563-PLCC20 (Leaded Chip Carrier; 20 Leads; Body 9 x 9 mm)
signal-integrity model M74HC563C1R
pins: 1 ~{OE} (in), 2 D1 (in), 3 D2 (in), 4 D3 (in), 5 D4 (in), 6 D5 (in), 7 D6 (in), 8 D7 (in), 9 D8 (in), 10 GND (power), 11 LE (in), 12 ~{Q}8 (hiz), 13 ~{Q}7 (hiz), 14 ~{Q}6 (hiz), 15 ~{Q}5 (hiz), 16 ~{Q}4 (hiz), 17 ~{Q}3 (hiz), 18 ~{Q}2 (hiz), 19 ~{Q}1 (hiz), 20 VCC (power)

## M74HC563M1R
designator U?
Octal D-Type Latch with 3-State Output Inverting; Published: 8-Jun-2000; LatestRevisionDate: 6-Jun-2005; LatestRevisionNote: Stylized 3D Model Added.; DatasheetDocument: Oct-1993; PackageDocument: Jul-2001; PackageReference: SO20; Publisher: Altium Limited; Code_JEDEC: MS-013-AC; Code_IPC: SO20W; ComponentLink1Description: Manufacturer Link; ComponentLink1URL: http://www.st.com/; ComponentLink2Description: Datasheet; ComponentLink2URL: http://www.st.com/stonline/products/literature/ds/1984/m74hc563.pdf
footprint SO20 (Small Outline, Plastic; 20 Leads; Body Width 7.5 mm; Pitch 1.27 mm)
3D model SO20 (Small Outline, Plastic; 20 Leads; Body Width 7.5 mm; Pitch 1.27 mm)
signal-integrity model M74HC563M1R
pins: 1 ~{OE} (in), 2 D1 (in), 3 D2 (in), 4 D3 (in), 5 D4 (in), 6 D5 (in), 7 D6 (in), 8 D7 (in), 9 D8 (in), 10 GND (power), 11 LE (in), 12 ~{Q}8 (hiz), 13 ~{Q}7 (hiz), 14 ~{Q}6 (hiz), 15 ~{Q}5 (hiz), 16 ~{Q}4 (hiz), 17 ~{Q}3 (hiz), 18 ~{Q}2 (hiz), 19 ~{Q}1 (hiz), 20 VCC (power)